# Altium footprint library footprints.PcbLib: 30 footprints (part 1 of 2)
Each footprint in its own frame and in the unit in brackets; x right, y up, seen from the top. Pads: shape width x height; smd on the part's side, far side on the other; paste and mask are expansions set on the pad; w line width, h text height; cw(c..) or ccw(c..) is an arc to the next point about the centre after c.
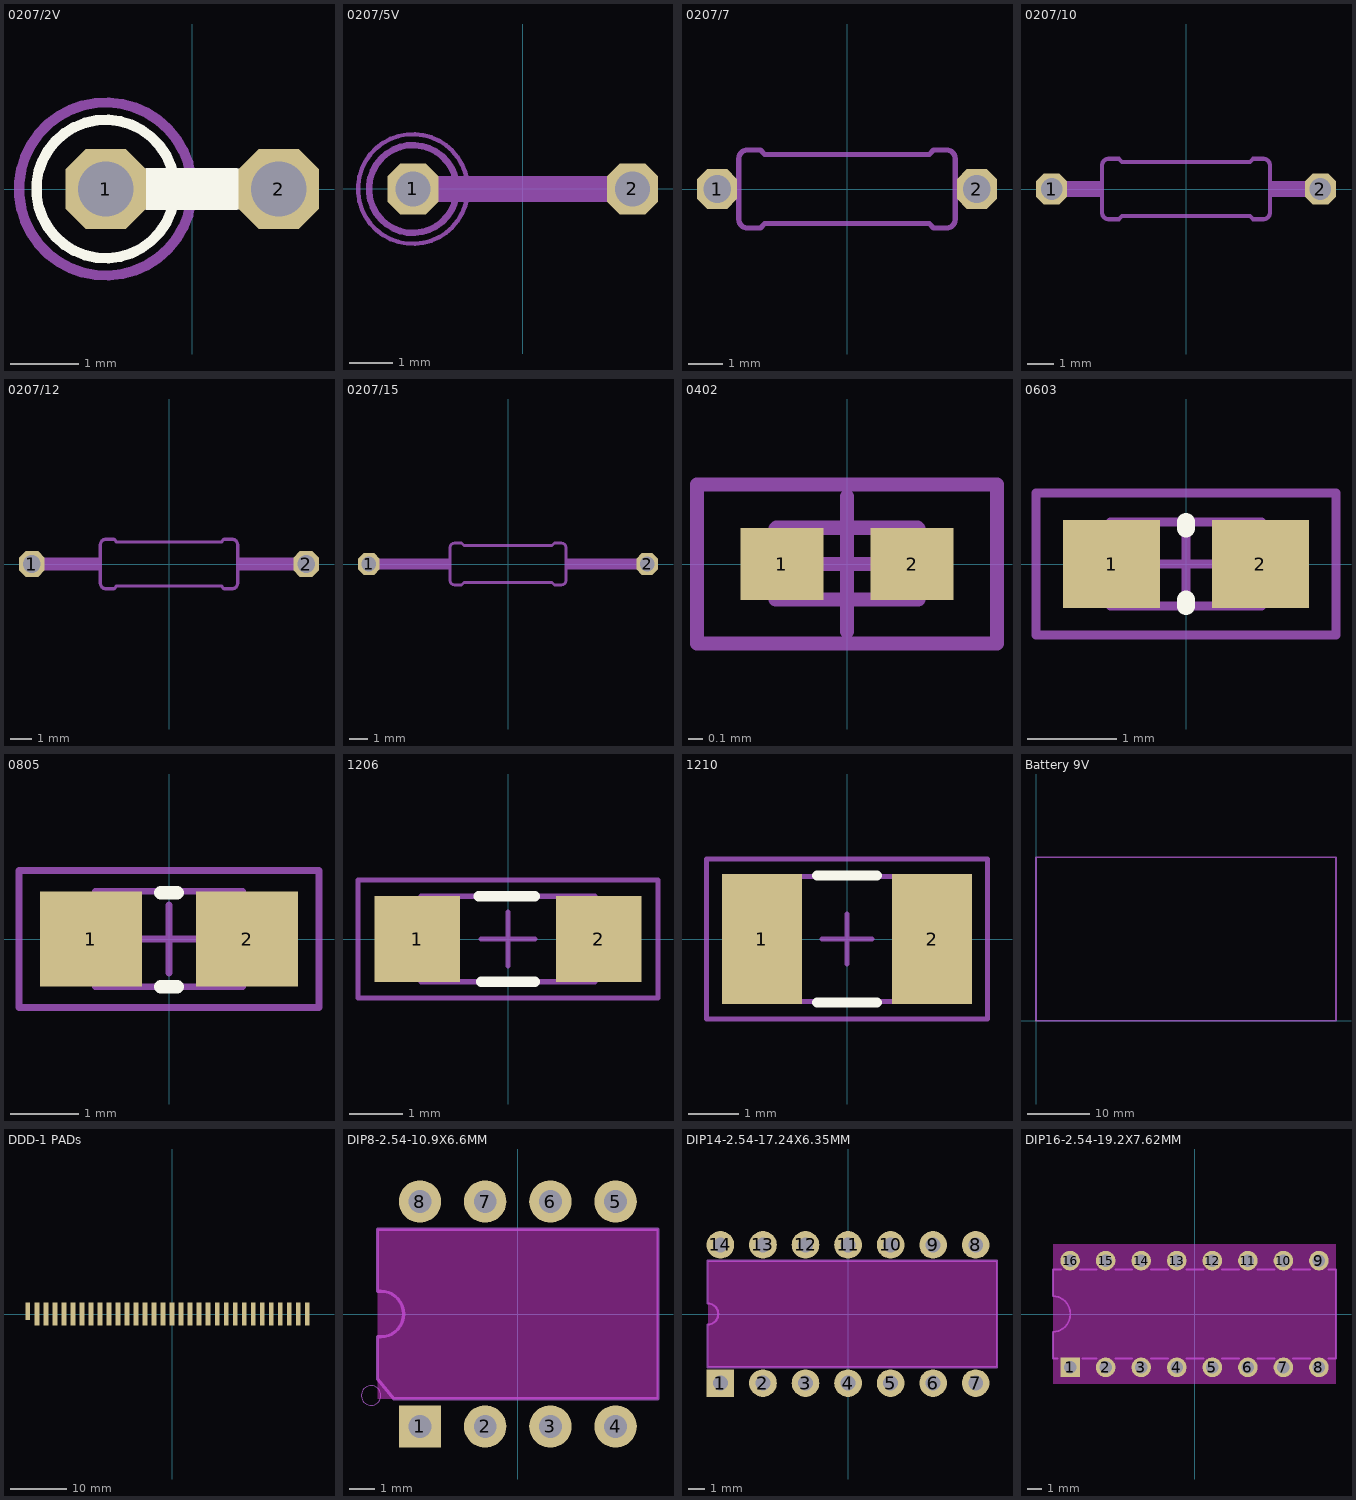
[diagram p0: the footprints below, top view; thin cyan lines are the x and y axes]

## 0207/2V [mil]
pads (2):
  oct 46.48x46.48 hole 32: 1(-50,0) 2(50,0)
Top Overlay:
  circle w6: c-50,0 r40
  lines w24: -25,0 24.37,0
[M15] Top Courtyard:
  circle w6: c-50,0 r50
  lines w24: -10,0 10,0

## 0207/5V [mil]
pads (2):
  oct 46.48x46.48 hole 32: 1(-100,0) 2(100,0)
Max Board Size:
  circle w4: c-100,0 r50
  lines w24: -30,0 30,0
Mechanical 18:
  circle w6: c-100,0 r40
  lines w24: -100,0 -35,0 ; 35,0 100,0

## 0207/7 [mil]
pads (2):
  oct 46.48x46.48 hole 32: 1(-150,0) 2(150,0)
Max Board Size:
  lines w6: -125,-35 ccw(c-115,-35) -115,-45 -100,-45 -95,-40 95,-40 100,-45 115,-45 ccw(c115,-35) 125,-35 ; -125,35 cw(c-115,35) -115,45 -100,45 -95,40 95,40 100,45 115,45 cw(c115,35) 125,35
Mechanical 18:
  rectangle: -135,-12 -125,12
  rectangle: 125,-12 135,12
  lines w6: -125,-35 -125,35 ; 125,-35 125,35
  lines w24: -150,0 -135,0 ; 135,0 150,0

## 0207/10 [mil]
pads (2):
  oct 46.48x46.48 hole 32: 1(-200,0) 2(200,0)
Max Board Size:
  rectangle: 125,-12 159,12
  rectangle: -159,-12 -125,12
  lines w6: -125,-35 ccw(c-115,-35) -115,-45 -100,-45 -95,-40 95,-40 100,-45 115,-45 ccw(c115,-35) 125,-35 125,35 ccw(c115,35) 115,45 100,45 95,40 -95,40 -100,45 -115,45 ccw(c-115,35) -125,35 -125,-35
Mechanical 18:
  lines w24: -200,0 -160,0 ; 160,0 200,0

## 0207/12 [mil]
pads (2):
  oct 46.48x46.48 hole 32: 1(-250,0) 2(250,0)
Max Board Size:
  rectangle: -209,-12 -175,12
  rectangle: 175,-12 209,12
  rectangle: -159,-12 -125,12
  rectangle: 125,-12 159,12
  lines w6: -125,-35 ccw(c-115,-35) -115,-45 -100,-45 -95,-40 95,-40 100,-45 115,-45 ccw(c115,-35) 125,-35 125,35 ccw(c115,35) 115,45 100,45 95,40 -95,40 -100,45 -115,45 ccw(c-115,35) -125,35 -125,-35
  lines w24: -175,0 -160,0 ; 160,0 175,0
Mechanical 18:
  lines w24: -250,0 -210,0 ; 210,0 250,0

## 0207/15 [mil]
pads (2):
  oct 46.48x46.48 hole 32: 1(-300,0) 2(300,0)
Max Board Size:
  rectangle: 125,-12 159,12
  rectangle: -159,-12 -125,12
  rectangle: 225,-12 259,12
  rectangle: -259,-12 -225,12
  lines w6: -125,-35 ccw(c-115,-35) -115,-45 -100,-45 -95,-40 95,-40 100,-45 115,-45 ccw(c115,-35) 125,-35 125,35 ccw(c115,35) 115,45 100,45 95,40 -95,40 -100,45 -115,45 ccw(c-115,35) -125,35 -125,-35
  lines w24: -225,0 -160,0 ; 160,0 225,0
Mechanical 18:
  lines w24: -300,0 -260,0 ; 260,0 300,0

## 0402 [mil] "Chip Package, 2-Leads, Body 1.0x0.5mm, IPC Medium Density"
height 19.68
pads (2):
  rect 23x20 smd: 1(-18,0) 2(18,0)
[M13] Top Body:
  lines w3.94: -19.68,9.85 -19.68,-9.84 19.69,-9.84 19.69,9.85 19.54,10 -19.53,10
[M15] Top Courtyard:
  lines w3.94: -18.7,0 18.7,0 ; 0,-18.7 0,18.7 ; -41.5,-22 41.5,-22 41.5,22 -41.5,22 -41.5,-22
3D body: height 19.68, standoff 0, extent -12,-10 12,10
3D body: height 19.68, standoff 0, extent -20,-10 -12,10
3D body: height 19.68, standoff 0, extent 12,-10 20,10

## 0603 [mil] "Chip Resistor, 2-Leads, Body 1.6x0.8mm, IPC Medium Density"
height 23.62
pads (2):
  rect 43x39 smd: 1(-33,0) 2(33,0)
Top Overlay:
  lines w7.87: 0,-15.74 0,-18.7 ; 0,15.75 0,18.7 ; 0,-18.7 0,-18.7 ; 0,18.7 0,18.7
[M13] Top Body:
  lines w3.94: -33.46,-18.7 -33.46,18.7 33.46,18.7 33.46,-18.7 -33.46,-18.7
[M15] Top Courtyard:
  lines w3.94: -18.7,0 18.7,0 ; 0,-18.7 0,18.7 ; -66.5,-31.5 66.5,-31.5 66.5,31.5 -66.5,31.5 -66.5,-31.5
3D body: height 33.46, standoff 0, extent -22,-16 22,16
3D body: height 33.46, standoff 0, extent -33.84,-16 -22,16
3D body: height 33.46, standoff 0, extent 22,-16 33.92,16

## 0805 [mil] "Chip Resistor, 2-Leads, Body 2.0x1.3mm, IPC Medium Density"
height 23.62
pads (2):
  rect 59x55 smd: 1(-45,0) 2(45,0)
Top Overlay:
  lines w7.87: -4.72,-27.62 4.72,-27.62 ; -4.72,26.62 4.72,26.62
[M13] Top Body:
  lines w3.94: -42.32,-27.56 -42.32,27.56 42.32,27.56 42.32,-27.56 -42.32,-27.56
[M15] Top Courtyard:
  lines w3.94: -19.68,0 19.69,0 ; 0,-19.68 0,19.69 ; -86.5,-39.5 -86.5,39.5 86.5,39.5 86.5,-39.5 -86.5,-39.5
3D body: height 49.21, standoff 0, extent 26,-27 42,27
3D body: height 49.21, standoff 0, extent -42,-27 -26,27
3D body: height 49.21, standoff 0, extent -26,-27 26,27

## 1206 [mil] "Chip Package, 2-Leads, Body 3.2x1.5mm, IPC Medium Density"
height 49.21
pads (2):
  rect 63x63 smd: 1(-67,0) 2(67,0)
Top Overlay:
  lines w7.87: -21.65,31.5 19.68,31.5 ; -19.68,-31.5 19.68,-31.5
[M13] Top Body:
  lines w3.94: -63.98,-31.5 -63.98,31.5 63.98,31.5 63.98,-31.5 -63.98,-31.5
[M15] Top Courtyard:
  lines w3.94: -19.68,0 19.69,0 ; 0,-19.69 0,19.68 ; -110.5,-43.5 -110.5,43.5 110.5,43.5 110.5,-43.5 -110.5,-43.5
3D body: height 49.21, standoff 0, extent -64,-31 -39,31
3D body: height 49.21, standoff 0, extent -39,-31 38,31
3D body: height 49.21, standoff 0, extent 38,-31 64,31

## 1210 [mil] "Chip Package, 2-Leads, Body 3.2x2.5mm, IPC Medium Density"
height 50
pads (2):
  rect 63x102 smd: 1(-67,0) 2(67,0)
Top Overlay:
  lines w7.87: -23.62,-50 23.62,-50 ; -23.62,50 23.62,50
[M13] Top Body:
  lines w3.94: 62.99,-49.21 -62.99,-49.21 -62.99,49.21 62.99,49.21 ; 62.99,-49.02 62.99,49.02
[M15] Top Courtyard:
  lines w3.94: -19.68,0 19.69,0 ; 0,-19.69 0,19.68 ; -110.5,-63 -110.5,63 110.5,63 110.5,-63 -110.5,-63
3D body: height 49.21, standoff 0, extent 38,-49 63,49
3D body: height 49.21, standoff 0, extent -39,-49 38,49
3D body: height 49.21, standoff 0, extent -63,-49 -39,49

## Battery 9V [mil] "9V Battery Model"
height 688.98
Mechanical Outline:
  lines w10: 0,0 1909.45,0 1909.45,1043.31 0,1043.31 0,0
3D body: height 688.98, standoff 0, extent 0,0 1909.45,1043.31

## DDD-1 PADs [mm] "Pads for the DDD-1 Interface"
pads (32):
  rect 0.85x3.11 smd: 1(-25.4,0.5)
  rect 0.85x4.11 smd: 2(-23.812,0) 3(-22.225,0) 4(-20.637,0) 5(-19.05,0) 6(-17.462,0) 7(-15.875,0) 8(-14.287,0) 9(-12.7,0) 10(-11.112,0) 11(-9.525,0) 12(-7.938,0) 13(-6.35,0) 14(-4.763,0) 15(-3.175,0) 16(-1.587,0) 17(0,0) 18(1.587,0) 19(3.175,0) 20(4.763,0) 21(6.35,0) 22(7.938,0) 23(9.525,0) 24(11.112,0) 25(12.7,0) 26(14.287,0) 27(15.875,0) 28(17.462,0) 29(19.05,0) 30(20.637,0) 31(22.225,0) 32(23.812,0)

## DIP8-2.54-10.9X6.6MM [mil]
pads (8):
  rect 65x65 hole 35: 1(-150,-172.5)
  round 65 hole 35: 2(-50,-172.5) 3(50,-172.5) 4(150,-172.5) 5(150,172.5) 6(50,172.5) 7(-50,172.5) 8(-150,172.5)
Keep-Out Layer:
  rectangle: -215,-130 215,130
Max Board Size:
  circle w0: c-225,-125 r15
  lines w5: -215,-100 -190,-130 215,-130 215,130 -215,130 -215,35 -210,35 cw(c-210,0) -175,0 cw(c-210,0) -210,-35 -215,-35 -215,-100

## DIP14-2.54-17.24X6.35MM [mil]
pads (14):
  rect 65x65 hole 35: 1(-300,-162.5)
  round 65 hole 35: 2(-200,-162.5) 3(-100,-162.5) 4(0,-162.5) 5(100,-162.5) 6(200,-162.5) 7(300,-162.5) 8(300,162.5) 9(200,162.5) 10(100,162.5) 11(0,162.5) 12(-100,162.5) 13(-200,162.5) 14(-300,162.5)
Keep-Out Layer:
  rectangle: -328.74,-125 350,125
Max Board Size:
  lines w5: -330,-125 350,-125 350,125 -330,125 -330,25 cw(c-330,0) -305,0 cw(c-330,0) -330,-25 -330,-125

## DIP16-2.54-19.2X7.62MM [mil]
pads (16):
  rect 55.12x55.12 hole 35.43: 1(-350,-150)
  round 55.12 hole 35.43: 2(-250,-150) 3(-150,-150) 4(-50,-150) 5(50,-150) 6(150,-150) 7(250,-150) 8(350,-150) 9(350,150) 10(250,150) 11(150,150) 12(50,150) 13(-50,150) 14(-150,150) 15(-250,150) 16(-350,150)
Keep-Out Layer:
  rectangle: -398.03,-196.85 398.03,196.85
Max Board Size:
  lines w5: -385.83,-125 -398.03,-125 -398.03,-50 ccw(c-398.03,-1.97) -350,-1.97 -350,1.97 ccw(c-398.03,1.97) -398.03,50 -398.03,125 -375,125 ; -323.03,125 -275,125 ; -314.96,-125 -275,-125 ; -223.03,-125 -175,-125 ; -223.03,125 -175,125 ; -123.03,-125 -75,-125 ; -123.03,125 -75,125 ; -23.03,-125 25,-125 ; -23.03,125 25,125 ; 76.97,-125 125,-125 ; 76.97,125 125,125 ; 176.97,-125 225,-125 ; 176.97,125 225,125 ; 276.97,-125 325,-125 ; 276.97,125 325,125 ; 376.97,-125 398.03,-125 398.03,125 376.97,125